# Altium schematic symbol library kmilo17pet-TI_StepDown.SchLib: 565 symbols (part 26 of 33)
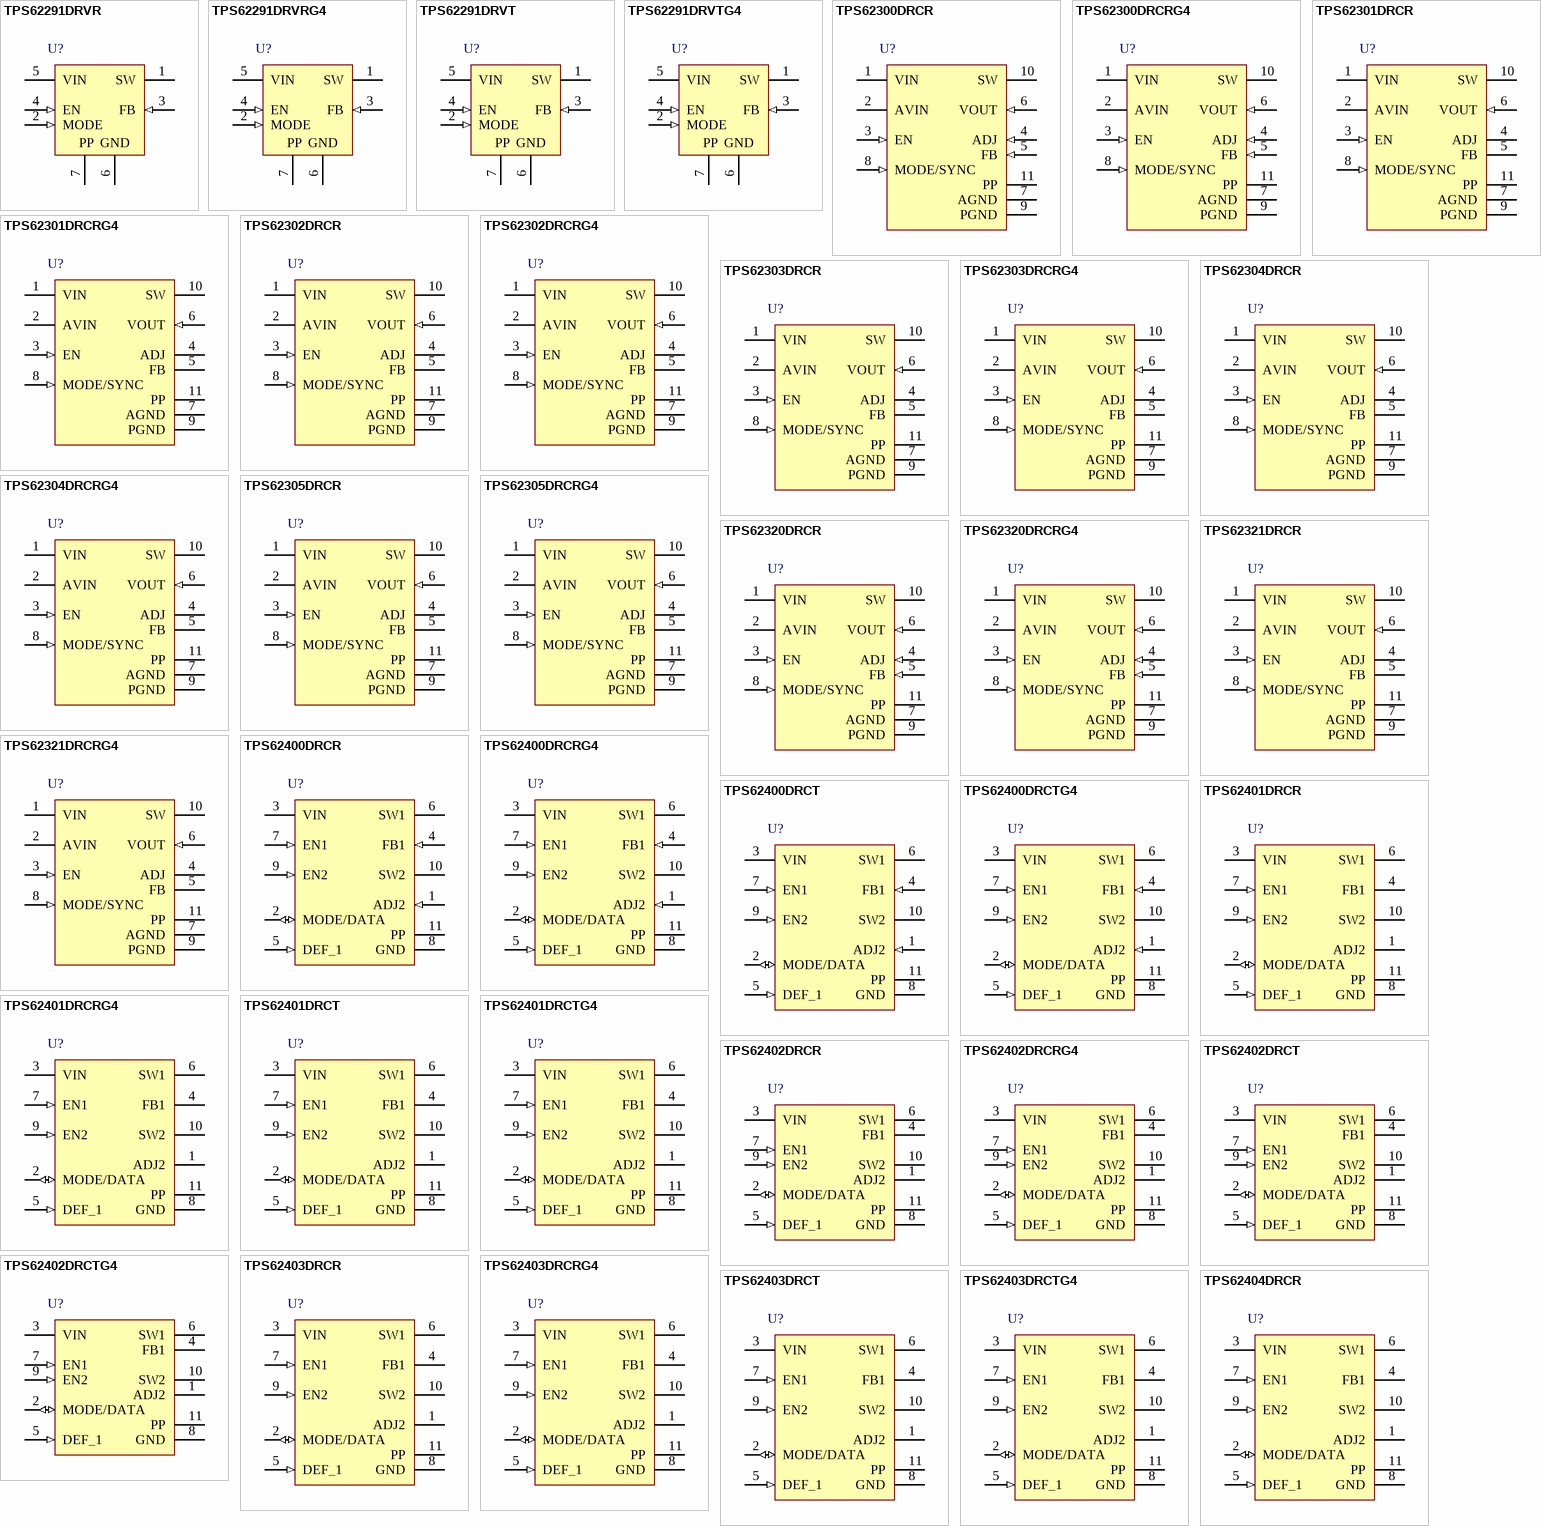
[diagram p44: symbols TPS62291DRVR to TPS62404DRCR]

## TPS62400DRCRG4
designator U?
Buck Adjustable Regulator with 2.5 to 6 V Input and 0.6 to 6 V Output, -40 to 85 degC, 10-Pin SON (DRC), Green (RoHS & no Sb/Br); Manufacturer: Texas Instruments; PartNumber: TPS62400DRCRG4; Duty Cycle(Max)(%): 100; Dynamic Voltage Scaling: TRUE; Iout(Max)(A): 0.4; Iout2(Max)(A): 0.6; Iq(Typ)(mA): 0.032; Rating: Catalog; Regulated Outputs(#): 2; SubFamily: Step-Down Regulator; Switch Current Limit(Typ)(A): 1; Vin(Max)(V): 6; Vin(Min)(V): 2.5; DatasheetVersion: SLVS681E; PackageVersion: revL, Sep-2011; PackageReference: DRC10-2400X1650TP; PackageDescription: 10-Pin Plastic Small Outline No-Lead, 3 x 3 x 1 mm Body, 0.5 mm Pitch, Exposed Pad; Supplier 1: Digi-Key; Supplier Part Number 1: TPS62400DRCRG4-ND; Eco-Plan: Green (RoHS & no Sb/Br); Synchronous Rectification: TRUE; Topology: Buck; Vout(Max)(V): 6; Vout(Min)(V): 0.6; Vout2(Max)(V): 6; Vout2(Min)(V): 0.6; Mounting Technology: Surface Mount; ComponentLink1Description: Datasheet; ComponentLink1URL: http://www.ti.com/general/docs/lit/getliterature.tsp?genericPartNumber=TPS62400&fileType=pdf; ComponentLink2Description: Package Specification; ComponentLink2URL: http://www.ti.com/litv/pdf/mpds117k; ComponentLink3Description: URL Link1; ComponentLink3URL: Samples URL:http://www.ti.com/product/tps62400#samples
footprint DRC10-2400X1650TP (SON, 10-Leads, Body 3x3mm, Pitch 0.5mm, Thermal Pad 2.4x1.65mm, TI Recommended)
pins: 1 ADJ2 (in) "Input to adjust output voltage of converter 2. In adjustable version (TPS62400) connect a external resistor divider between VOUT2, this pin and GND to set output voltage between 0.6V and VIN. At fixed output voltage version (See Datasheet)", 2 MODE/DATA (io) "This Pin has 2 functions: 1. Operation Mode selection: With low level, Power Save Mode is enabled where the device operates in PFM mode at light loads and enters automatically PWM mode at heavy loads. Pulling this PIN to (See Datasheet)", 3 VIN (power) "Supply voltage, connect to VBAT, 2.5V to 6V", 4 FB1 (in) "Direct feedback voltage sense input of converter 1, connect directly to Vout 1. An internal feed forward capacitor is connected between this pin and the error amplifier. In case of fixed output voltage versions or when the (See Datasheet)", 5 DEF_1 (in) "This pin defines the output voltage of converter 1. The pin acts either as analog input for output voltage setting via external resistors (TPS62400). For the TPS62400, an external resistor network needs to be connected to (See Datasheet)", 6 SW1 (power) "Switch Pin of Converter1. Connect to Inductor", 7 EN1 (in) "Enable Input for Converter1, active high", 8 GND (power) "GND for both converters; connect this pin to the PowerPAD", 9 EN2 (in) "Enable Input for Converter 2, active high", 10 SW2 (power) "Switch Pin of Converter 2. Connect to Inductor.", 11 PP (power) "Connect to GND"

## TPS62400DRCT
designator U?
Buck Adjustable Regulator with 2.5 to 6 V Input and 0.6 to 6 V Output, -40 to 85 degC, 10-Pin SON (DRC), Green (RoHS & no Sb/Br); Manufacturer: Texas Instruments; PartNumber: TPS62400DRCT; Duty Cycle(Max)(%): 100; Dynamic Voltage Scaling: TRUE; Iout(Max)(A): 0.4; Iout2(Max)(A): 0.6; Iq(Typ)(mA): 0.032; Rating: Catalog; Regulated Outputs(#): 2; SubFamily: Step-Down Regulator; Switch Current Limit(Typ)(A): 1; Vin(Max)(V): 6; Vin(Min)(V): 2.5; DatasheetVersion: SLVS681E; PackageVersion: revL, Sep-2011; PackageReference: DRC10-2400X1650TP; PackageDescription: 10-Pin Plastic Small Outline No-Lead, 3 x 3 x 1 mm Body, 0.5 mm Pitch, Exposed Pad; Supplier 1: Digi-Key; Supplier Part Number 1: 296-20690-2-ND; Eco-Plan: Green (RoHS & no Sb/Br); Synchronous Rectification: TRUE; Topology: Buck; Vout(Max)(V): 6; Vout(Min)(V): 0.6; Vout2(Max)(V): 6; Vout2(Min)(V): 0.6; Mounting Technology: Surface Mount; ComponentLink1Description: Datasheet; ComponentLink1URL: http://www.ti.com/general/docs/lit/getliterature.tsp?genericPartNumber=TPS62400&fileType=pdf; ComponentLink2Description: Package Specification; ComponentLink2URL: http://www.ti.com/litv/pdf/mpds117k; ComponentLink3Description: URL Link1; ComponentLink3URL: Samples URL:http://www.ti.com/product/tps62400#samples
footprint DRC10-2400X1650TP (SON, 10-Leads, Body 3x3mm, Pitch 0.5mm, Thermal Pad 2.4x1.65mm, TI Recommended)
pins: 1 ADJ2 (in) "Input to adjust output voltage of converter 2. In adjustable version (TPS62400) connect a external resistor divider between VOUT2, this pin and GND to set output voltage between 0.6V and VIN. At fixed output voltage version (See Datasheet)", 2 MODE/DATA (io) "This Pin has 2 functions: 1. Operation Mode selection: With low level, Power Save Mode is enabled where the device operates in PFM mode at light loads and enters automatically PWM mode at heavy loads. Pulling this PIN to (See Datasheet)", 3 VIN (power) "Supply voltage, connect to VBAT, 2.5V to 6V", 4 FB1 (in) "Direct feedback voltage sense input of converter 1, connect directly to Vout 1. An internal feed forward capacitor is connected between this pin and the error amplifier. In case of fixed output voltage versions or when the (See Datasheet)", 5 DEF_1 (in) "This pin defines the output voltage of converter 1. The pin acts either as analog input for output voltage setting via external resistors (TPS62400). For the TPS62400, an external resistor network needs to be connected to (See Datasheet)", 6 SW1 (power) "Switch Pin of Converter1. Connect to Inductor", 7 EN1 (in) "Enable Input for Converter1, active high", 8 GND (power) "GND for both converters; connect this pin to the PowerPAD", 9 EN2 (in) "Enable Input for Converter 2, active high", 10 SW2 (power) "Switch Pin of Converter 2. Connect to Inductor.", 11 PP (power) "Connect to GND"

## TPS62400DRCTG4
designator U?
Buck Adjustable Regulator with 2.5 to 6 V Input and 0.6 to 6 V Output, -40 to 85 degC, 10-Pin SON (DRC), Green (RoHS & no Sb/Br); Manufacturer: Texas Instruments; PartNumber: TPS62400DRCTG4; Duty Cycle(Max)(%): 100; Dynamic Voltage Scaling: true; Iout(Max)(A): 0.4; Iout2(Max)(A): 0.6; Iq(Typ)(mA): 0.032; Rating: Catalog; Regulated Outputs(#): 2; SubFamily: Step-Down Regulator; Switch Current Limit(Typ)(A): 1; Vin(Max)(V): 6; Vin(Min)(V): 2.5; DatasheetVersion: SLVS681E; PackageVersion: revL, Sep-2011; PackageReference: DRC10-2400X1650TP; PackageDescription: 10-Pin Plastic Small Outline No-Lead, 3 x 3 x 1 mm Body, 0.5 mm Pitch, Exposed Pad; Supplier 1: Digi-Key; Supplier Part Number 1: TPS62400DRCTG4-ND; Eco-Plan: Green (RoHS & no Sb/Br); Synchronous Rectification: TRUE; Topology: Buck; Vout(Max)(V): 6; Vout(Min)(V): 0.6; Vout2(Max)(V): 6; Vout2(Min)(V): 0.6; Mounting Technology: Surface Mount; ComponentLink1Description: Datasheet; ComponentLink1URL: http://www.ti.com/general/docs/lit/getliterature.tsp?genericPartNumber=TPS62400&fileType=pdf; ComponentLink2Description: Package Specification; ComponentLink2URL: http://www.ti.com/litv/pdf/mpds117k; ComponentLink3Description: URL Link1; ComponentLink3URL: Samples URL:http://www.ti.com/product/tps54611#samples
footprint DRC10-2400X1650TP (SON, 10-Leads, Body 3x3mm, Pitch 0.5mm, Thermal Pad 2.4x1.65mm, TI Recommended)
pins: 1 ADJ2 (in) "Input to adjust output voltage of converter 2. In adjustable version (TPS62400) connect a external resistor divider between VOUT2, this pin and GND to set output voltage between 0.6V and VIN. At fixed output voltage version (See Datasheet)", 2 MODE/DATA (io) "This Pin has 2 functions: 1. Operation Mode selection: With low level, Power Save Mode is enabled where the device operates in PFM mode at light loads and enters automatically PWM mode at heavy loads. Pulling this PIN to (See Datasheet)", 3 VIN (power) "Supply voltage, connect to VBAT, 2.5V to 6V", 4 FB1 (in) "Direct feedback voltage sense input of converter 1, connect directly to Vout 1. An internal feed forward capacitor is connected between this pin and the error amplifier. In case of fixed output voltage versions or when the (See Datasheet)", 5 DEF_1 (in) "This pin defines the output voltage of converter 1. The pin acts either as analog input for output voltage setting via external resistors (TPS62400). For the TPS62400, an external resistor network needs to be connected to (See Datasheet)", 6 SW1 (power) "Switch Pin of Converter1. Connect to Inductor", 7 EN1 (in) "Enable Input for Converter1, active high", 8 GND (power) "GND for both converters; connect this pin to the PowerPAD", 9 EN2 (in) "Enable Input for Converter 2, active high", 10 SW2 (power) "Switch Pin of Converter 2. Connect to Inductor.", 11 PP (power) "Connect to GND"

## TPS62401DRCR
designator U?
Buck Step Down Regulator with 2.5 to 6 V Input and 1.1 to 1.575 V Output, -40 to 85 degC, 10-Pin SON (DRC), Green (RoHS & no Sb/Br); Manufacturer: Texas Instruments; PartNumber: TPS62401DRCR; Duty Cycle(Max)(%): 100; Dynamic Voltage Scaling: TRUE; Iout(Max)(A): 0.4; Iout2(Max)(A): 0.6; Iq(Typ)(mA): 0.032; Rating: Catalog; Regulated Outputs(#): 2; SubFamily: Step-Down Regulator; Switch Current Limit(Typ)(A): 1; Vin(Max)(V): 6; Vin(Min)(V): 2.5; Vout(Max)(V): 1.575; Vout(Min)(V): 1.1; Vout2(Max)(V): 2.8; DatasheetVersion: SLVS681E; PackageVersion: revL, Sep-2011; PackageReference: DRC10-2400X1650TP; PackageDescription: 10-Pin Plastic Small Outline No-Lead, 3 x 3 x 1 mm Body, 0.5 mm Pitch, Exposed Pad; Supplier 1: Digi-Key; Supplier Part Number 1: TPS62401DRCR-ND; Eco-Plan: Green (RoHS & no Sb/Br); Synchronous Rectification: TRUE; Topology: Buck; Vout2(Min)(V): 2.8; Mounting Technology: Surface Mount; ComponentLink1Description: Datasheet; ComponentLink1URL: http://www.ti.com/general/docs/lit/getliterature.tsp?genericPartNumber=TPS62401&fileType=pdf; ComponentLink2Description: Package Specification; ComponentLink2URL: http://www.ti.com/litv/pdf/mpds117k; ComponentLink3Description: URL Link1; ComponentLink3URL: Samples URL:http://www.ti.com/product/tps62401#samples
footprint DRC10-2400X1650TP (SON, 10-Leads, Body 3x3mm, Pitch 0.5mm, Thermal Pad 2.4x1.65mm, TI Recommended)
pins: 1 ADJ2 "Input to adjust output voltage of converter 2. In adjustable version (TPS62400) connect a external resistor divider between VOUT2, this pin and GND to set output voltage between 0.6V and VIN. At fixed output voltage version (See Datasheet)", 2 MODE/DATA (io) "This Pin has 2 functions: 1. Operation Mode selection: With low level, Power Save Mode is enabled where the device operates in PFM mode at light loads and enters automatically PWM mode at heavy loads. Pulling this PIN to (See Datasheet)", 3 VIN (power) "Supply voltage, connect to VBAT, 2.5V to 6V", 4 FB1 "Direct feedback voltage sense input of converter 1, connect directly to Vout 1. An internal feed forward capacitor is connected between this pin and the error amplifier. In case of fixed output voltage versions or when the (See Datasheet)", 5 DEF_1 (in) "This pin defines the output voltage of converter 1. The pin acts either as analog input for output voltage setting via external resistors (TPS62400), or digital input to select between two fixed default output voltages (See Datasheet)", 6 SW1 (power) "Switch Pin of Converter1. Connect to Inductor", 7 EN1 (in) "Enable Input for Converter1, active high", 8 GND (power) "GND for both converters; connect this pin to the PowerPAD", 9 EN2 (in) "Enable Input for Converter 2, active high", 10 SW2 (power) "Switch Pin of Converter 2. Connect to Inductor.", 11 PP (power) "Connect to GND"

## TPS62401DRCRG4
designator U?
Buck Step Down Regulator with 2.5 to 6 V Input and 1.1 to 1.575 V Output, -40 to 85 degC, 10-Pin SON (DRC), Green (RoHS & no Sb/Br); Manufacturer: Texas Instruments; PartNumber: TPS62401DRCRG4; Duty Cycle(Max)(%): 100; Dynamic Voltage Scaling: TRUE; Iout(Max)(A): 0.4; Iout2(Max)(A): 0.6; Iq(Typ)(mA): 0.032; Rating: Catalog; Regulated Outputs(#): 2; SubFamily: Step-Down Regulator; Switch Current Limit(Typ)(A): 1; Vin(Max)(V): 6; Vin(Min)(V): 2.5; Vout(Max)(V): 1.575; Vout(Min)(V): 1.1; Vout2(Max)(V): 2.8; DatasheetVersion: SLVS681E; PackageVersion: revL, Sep-2011; PackageReference: DRC10-2400X1650TP; PackageDescription: 10-Pin Plastic Small Outline No-Lead, 3 x 3 x 1 mm Body, 0.5 mm Pitch, Exposed Pad; Supplier 1: Digi-Key; Supplier Part Number 1: TPS62401DRCRG4-ND; Eco-Plan: Green (RoHS & no Sb/Br); Synchronous Rectification: TRUE; Topology: Buck; Vout2(Min)(V): 2.8; Mounting Technology: Surface Mount; ComponentLink1Description: Datasheet; ComponentLink1URL: http://www.ti.com/general/docs/lit/getliterature.tsp?genericPartNumber=TPS62401&fileType=pdf; ComponentLink2Description: Package Specification; ComponentLink2URL: http://www.ti.com/litv/pdf/mpds117k; ComponentLink3Description: URL Link1; ComponentLink3URL: Samples URL:http://www.ti.com/product/tps62401#samples
footprint DRC10-2400X1650TP (SON, 10-Leads, Body 3x3mm, Pitch 0.5mm, Thermal Pad 2.4x1.65mm, TI Recommended)
pins: 1 ADJ2 "Input to adjust output voltage of converter 2. In adjustable version (TPS62400) connect a external resistor divider between VOUT2, this pin and GND to set output voltage between 0.6V and VIN. At fixed output voltage version (See Datasheet)", 2 MODE/DATA (io) "This Pin has 2 functions: 1. Operation Mode selection: With low level, Power Save Mode is enabled where the device operates in PFM mode at light loads and enters automatically PWM mode at heavy loads. Pulling this PIN to (See Datasheet)", 3 VIN (power) "Supply voltage, connect to VBAT, 2.5V to 6V", 4 FB1 "Direct feedback voltage sense input of converter 1, connect directly to Vout 1. An internal feed forward capacitor is connected between this pin and the error amplifier. In case of fixed output voltage versions or when the (See Datasheet)", 5 DEF_1 (in) "This pin defines the output voltage of converter 1. The pin acts either as analog input for output voltage setting via external resistors (TPS62400), or digital input to select between two fixed default output voltages (See Datasheet)", 6 SW1 (power) "Switch Pin of Converter1. Connect to Inductor", 7 EN1 (in) "Enable Input for Converter1, active high", 8 GND (power) "GND for both converters; connect this pin to the PowerPAD", 9 EN2 (in) "Enable Input for Converter 2, active high", 10 SW2 (power) "Switch Pin of Converter 2. Connect to Inductor.", 11 PP (power) "Connect to GND"

## TPS62401DRCT
designator U?
Buck Step Down Regulator with 2.5 to 6 V Input and 1.1 to 1.575 V Output, -40 to 85 degC, 10-Pin SON (DRC), Green (RoHS & no Sb/Br); Manufacturer: Texas Instruments; PartNumber: TPS62401DRCT; Duty Cycle(Max)(%): 100; Dynamic Voltage Scaling: TRUE; Iout(Max)(A): 0.4; Iout2(Max)(A): 0.6; Iq(Typ)(mA): 0.032; Rating: Catalog; Regulated Outputs(#): 2; SubFamily: Step-Down Regulator; Switch Current Limit(Typ)(A): 1; Vin(Max)(V): 6; Vin(Min)(V): 2.5; Vout(Max)(V): 1.575; Vout(Min)(V): 1.1; Vout2(Max)(V): 2.8; DatasheetVersion: SLVS681E; PackageVersion: revL, Sep-2011; PackageReference: DRC10-2400X1650TP; PackageDescription: 10-Pin Plastic Small Outline No-Lead, 3 x 3 x 1 mm Body, 0.5 mm Pitch, Exposed Pad; Supplier 1: Digi-Key; Supplier Part Number 1: 296-20691-2-ND; Eco-Plan: Green (RoHS & no Sb/Br); Synchronous Rectification: TRUE; Topology: Buck; Vout2(Min)(V): 2.8; Mounting Technology: Surface Mount; ComponentLink1Description: Datasheet; ComponentLink1URL: http://www.ti.com/general/docs/lit/getliterature.tsp?genericPartNumber=TPS62401&fileType=pdf; ComponentLink2Description: Package Specification; ComponentLink2URL: http://www.ti.com/litv/pdf/mpds117k; ComponentLink3Description: URL Link1; ComponentLink3URL: Samples URL:http://www.ti.com/product/tps62401#samples
footprint DRC10-2400X1650TP (SON, 10-Leads, Body 3x3mm, Pitch 0.5mm, Thermal Pad 2.4x1.65mm, TI Recommended)
pins: 1 ADJ2 "Input to adjust output voltage of converter 2. In adjustable version (TPS62400) connect a external resistor divider between VOUT2, this pin and GND to set output voltage between 0.6V and VIN. At fixed output voltage version (See Datasheet)", 2 MODE/DATA (io) "This Pin has 2 functions: 1. Operation Mode selection: With low level, Power Save Mode is enabled where the device operates in PFM mode at light loads and enters automatically PWM mode at heavy loads. Pulling this PIN to (See Datasheet)", 3 VIN (power) "Supply voltage, connect to VBAT, 2.5V to 6V", 4 FB1 "Direct feedback voltage sense input of converter 1, connect directly to Vout 1. An internal feed forward capacitor is connected between this pin and the error amplifier. In case of fixed output voltage versions or when the (See Datasheet)", 5 DEF_1 (in) "This pin defines the output voltage of converter 1. The pin acts either as analog input for output voltage setting via external resistors (TPS62400), or digital input to select between two fixed default output voltages (See Datasheet)", 6 SW1 (power) "Switch Pin of Converter1. Connect to Inductor", 7 EN1 (in) "Enable Input for Converter1, active high", 8 GND (power) "GND for both converters; connect this pin to the PowerPAD", 9 EN2 (in) "Enable Input for Converter 2, active high", 10 SW2 (power) "Switch Pin of Converter 2. Connect to Inductor.", 11 PP (power) "Connect to GND"

## TPS62401DRCTG4
designator U?
Buck Step Down Regulator with 2.5 to 6 V Input and 1.1 to 1.575 V Output, -40 to 85 degC, 10-Pin SON (DRC), Green (RoHS & no Sb/Br); Manufacturer: Texas Instruments; PartNumber: TPS62401DRCTG4; Duty Cycle(Max)(%): 100; Dynamic Voltage Scaling: TRUE; Iout(Max)(A): 0.4; Iout2(Max)(A): 0.6; Iq(Typ)(mA): 0.032; Rating: Catalog; Regulated Outputs(#): 2; SubFamily: Step-Down Regulator; Switch Current Limit(Typ)(A): 1; Vin(Max)(V): 6; Vin(Min)(V): 2.5; Vout(Max)(V): 1.575; Vout(Min)(V): 1.1; Vout2(Max)(V): 2.8; DatasheetVersion: SLVS681E; PackageVersion: revL, Sep-2011; PackageReference: DRC10-2400X1650TP; PackageDescription: 10-Pin Plastic Small Outline No-Lead, 3 x 3 x 1 mm Body, 0.5 mm Pitch, Exposed Pad; Supplier 1: Digi-Key; Supplier Part Number 1: TPS62401DRCTG4-ND; Eco-Plan: Green (RoHS & no Sb/Br); Synchronous Rectification: TRUE; Topology: Buck; Vout2(Min)(V): 2.8; Mounting Technology: Surface Mount; ComponentLink1Description: Datasheet; ComponentLink1URL: http://www.ti.com/general/docs/lit/getliterature.tsp?genericPartNumber=TPS62401&fileType=pdf; ComponentLink2Description: Package Specification; ComponentLink2URL: http://www.ti.com/litv/pdf/mpds117k; ComponentLink3Description: URL Link1; ComponentLink3URL: Samples URL:http://www.ti.com/product/tps54611#samples
footprint DRC10-2400X1650TP (SON, 10-Leads, Body 3x3mm, Pitch 0.5mm, Thermal Pad 2.4x1.65mm, TI Recommended)
pins: 1 ADJ2 "Input to adjust output voltage of converter 2. In adjustable version (TPS62400) connect a external resistor divider between VOUT2, this pin and GND to set output voltage between 0.6V and VIN. At fixed output voltage version (See Datasheet)", 2 MODE/DATA (io) "This Pin has 2 functions: 1. Operation Mode selection: With low level, Power Save Mode is enabled where the device operates in PFM mode at light loads and enters automatically PWM mode at heavy loads. Pulling this PIN to (See Datasheet)", 3 VIN (power) "Supply voltage, connect to VBAT, 2.5V to 6V", 4 FB1 "Direct feedback voltage sense input of converter 1, connect directly to Vout 1. An internal feed forward capacitor is connected between this pin and the error amplifier. In case of fixed output voltage versions or when the (See Datasheet)", 5 DEF_1 (in) "This pin defines the output voltage of converter 1. The pin acts either as analog input for output voltage setting via external resistors (TPS62400), or digital input to select between two fixed default output voltages (See Datasheet)", 6 SW1 (power) "Switch Pin of Converter1. Connect to Inductor", 7 EN1 (in) "Enable Input for Converter1, active high", 8 GND (power) "GND for both converters; connect this pin to the PowerPAD", 9 EN2 (in) "Enable Input for Converter 2, active high", 10 SW2 (power) "Switch Pin of Converter 2. Connect to Inductor.", 11 PP (power) "Connect to GND"

## TPS62402DRCR
designator U?
Buck Step Down Regulator with 2.5 to 6 V Input and 1.2 to 1.8 V Output, -40 to 85 degC, 10-Pin SON (DRC), Green (RoHS & no Sb/Br); Manufacturer: Texas Instruments; PartNumber: TPS62402DRCR; Duty Cycle(Max)(%): 100; Dynamic Voltage Scaling: TRUE; Iout(Max)(A): 0.4; Iout2(Max)(A): 0.6; Iq(Typ)(mA): 0.032; Rating: Catalog; Regulated Outputs(#): 2; SubFamily: Step-Down Regulator; Switch Current Limit(Typ)(A): 1; Vin(Max)(V): 6; Vin(Min)(V): 2.5; Vout(Max)(V): 1.8; Vout(Min)(V): 1.2; Vout2(Max)(V): 3.3; DatasheetVersion: SLVS681E; PackageVersion: revL, Sep-2011; PackageReference: DRC10-2400X1650TP; PackageDescription: 10-Pin Plastic Small Outline No-Lead, 3 x 3 x 1 mm Body, 0.5 mm Pitch, Exposed Pad; Supplier 1: Digi-Key; Supplier Part Number 1: TPS62402DRCR-ND; Eco-Plan: Green (RoHS & no Sb/Br); Synchronous Rectification: TRUE; Topology: Buck; Vout2(Min)(V): 3.3; Mounting Technology: Surface Mount; ComponentLink1Description: Datasheet; ComponentLink1URL: http://www.ti.com/general/docs/lit/getliterature.tsp?genericPartNumber=TPS62402&fileType=pdf; ComponentLink2Description: Package Specification; ComponentLink2URL: http://www.ti.com/litv/pdf/mpds117k; ComponentLink3Description: URL Link1; ComponentLink3URL: Samples URL:http://www.ti.com/product/tps62402#samples
footprint DRC10-2400X1650TP (SON, 10-Leads, Body 3x3mm, Pitch 0.5mm, Thermal Pad 2.4x1.65mm, TI Recommended)
pins: 1 ADJ2 "Input to adjust output voltage of converter 2. In adjustable version (TPS62400) connect a external resistor divider between VOUT2, this pin and GND to set output voltage between 0.6V and VIN. At fixed output voltage version (See Datasheet)", 2 MODE/DATA (io) "This Pin has 2 functions: 1. Operation Mode selection: With low level, Power Save Mode is enabled where the device operates in PFM mode at light loads and enters automatically PWM mode at heavy loads. Pulling this PIN to (See Datasheet)", 3 VIN (power) "Supply voltage, connect to VBAT, 2.5V to 6V", 4 FB1 "Direct feedback voltage sense input of converter 1, connect directly to Vout 1. An internal feed forward capacitor is connected between this pin and the error amplifier. In case of fixed output voltage versions or when the (See Datasheet)", 5 DEF_1 (in) "This pin defines the output voltage of converter 1. The pin acts either as analog input for output voltage setting via external resistors (TPS62400), or digital input to select between two fixed default output voltages (See Datasheet)", 6 SW1 (power) "Switch Pin of Converter1. Connect to Inductor", 7 EN1 (in) "Enable Input for Converter1, active high", 8 GND (power) "GND for both converters; connect this pin to the PowerPAD", 9 EN2 (in) "Enable Input for Converter 2, active high", 10 SW2 (power) "Switch Pin of Converter 2. Connect to Inductor.", 11 PP (power) "Connect to GND"

## TPS62402DRCRG4
designator U?
Buck Step Down Regulator with 2.5 to 6 V Input and 1.2 to 1.8 V Output, -40 to 85 degC, 10-Pin SON (DRC), Green (RoHS & no Sb/Br); Manufacturer: Texas Instruments; PartNumber: TPS62402DRCRG4; Duty Cycle(Max)(%): 100; Dynamic Voltage Scaling: TRUE; Iout(Max)(A): 0.4; Iout2(Max)(A): 0.6; Iq(Typ)(mA): 0.032; Rating: Catalog; Regulated Outputs(#): 2; SubFamily: Step-Down Regulator; Switch Current Limit(Typ)(A): 1; Vin(Max)(V): 6; Vin(Min)(V): 2.5; Vout(Max)(V): 1.8; Vout(Min)(V): 1.2; Vout2(Max)(V): 3.3; DatasheetVersion: SLVS681E; PackageVersion: revL, Sep-2011; PackageReference: DRC10-2400X1650TP; PackageDescription: 10-Pin Plastic Small Outline No-Lead, 3 x 3 x 1 mm Body, 0.5 mm Pitch, Exposed Pad; Supplier 1: Digi-Key; Supplier Part Number 1: TPS62402DRCRG4-ND; Eco-Plan: Green (RoHS & no Sb/Br); Synchronous Rectification: TRUE; Topology: Buck; Vout2(Min)(V): 3.3; Mounting Technology: Surface Mount; ComponentLink1Description: Datasheet; ComponentLink1URL: http://www.ti.com/general/docs/lit/getliterature.tsp?genericPartNumber=TPS62402&fileType=pdf; ComponentLink2Description: Package Specification; ComponentLink2URL: http://www.ti.com/litv/pdf/mpds117k; ComponentLink3Description: URL Link1; ComponentLink3URL: Samples URL:http://www.ti.com/product/tps62402#samples
footprint DRC10-2400X1650TP (SON, 10-Leads, Body 3x3mm, Pitch 0.5mm, Thermal Pad 2.4x1.65mm, TI Recommended)
pins: 1 ADJ2 "Input to adjust output voltage of converter 2. In adjustable version (TPS62400) connect a external resistor divider between VOUT2, this pin and GND to set output voltage between 0.6V and VIN. At fixed output voltage version (See Datasheet)", 2 MODE/DATA (io) "This Pin has 2 functions: 1. Operation Mode selection: With low level, Power Save Mode is enabled where the device operates in PFM mode at light loads and enters automatically PWM mode at heavy loads. Pulling this PIN to (See Datasheet)", 3 VIN (power) "Supply voltage, connect to VBAT, 2.5V to 6V", 4 FB1 "Direct feedback voltage sense input of converter 1, connect directly to Vout 1. An internal feed forward capacitor is connected between this pin and the error amplifier. In case of fixed output voltage versions or when the (See Datasheet)", 5 DEF_1 (in) "This pin defines the output voltage of converter 1. The pin acts either as analog input for output voltage setting via external resistors (TPS62400), or digital input to select between two fixed default output voltages (See Datasheet)", 6 SW1 (power) "Switch Pin of Converter1. Connect to Inductor", 7 EN1 (in) "Enable Input for Converter1, active high", 8 GND (power) "GND for both converters; connect this pin to the PowerPAD", 9 EN2 (in) "Enable Input for Converter 2, active high", 10 SW2 (power) "Switch Pin of Converter 2. Connect to Inductor.", 11 PP (power) "Connect to GND"

## TPS62402DRCT
designator U?
Buck Step Down Regulator with 2.5 to 6 V Input and 1.2 to 1.8 V Output, -40 to 85 degC, 10-Pin SON (DRC), Green (RoHS & no Sb/Br); Manufacturer: Texas Instruments; PartNumber: TPS62402DRCT; Duty Cycle(Max)(%): 100; Dynamic Voltage Scaling: TRUE; Iout(Max)(A): 0.4; Iout2(Max)(A): 0.6; Iq(Typ)(mA): 0.032; Rating: Catalog; Regulated Outputs(#): 2; SubFamily: Step-Down Regulator; Switch Current Limit(Typ)(A): 1; Vin(Max)(V): 6; Vin(Min)(V): 2.5; Vout(Max)(V): 1.8; Vout(Min)(V): 1.2; Vout2(Max)(V): 3.3; DatasheetVersion: SLVS681E; PackageVersion: revL, Sep-2011; PackageReference: DRC10-2400X1650TP; PackageDescription: 10-Pin Plastic Small Outline No-Lead, 3 x 3 x 1 mm Body, 0.5 mm Pitch, Exposed Pad; Supplier 1: Digi-Key; Supplier Part Number 1: 296-21646-2-ND; Supplier 7: Mouser; Supplier Part Number 7: 595-TPS62402DRCT; Eco-Plan: Green (RoHS & no Sb/Br); Synchronous Rectification: TRUE; Topology: Buck; Vout2(Min)(V): 3.3; Mounting Technology: Surface Mount; ComponentLink1Description: Datasheet; ComponentLink1URL: http://www.ti.com/general/docs/lit/getliterature.tsp?genericPartNumber=TPS62402&fileType=pdf; ComponentLink2Description: Package Specification; ComponentLink2URL: http://www.ti.com/litv/pdf/mpds117k; ComponentLink3Description: URL Link1; ComponentLink3URL: Samples URL:http://www.ti.com/product/tps62402#samples
footprint DRC10-2400X1650TP (SON, 10-Leads, Body 3x3mm, Pitch 0.5mm, Thermal Pad 2.4x1.65mm, TI Recommended)
pins: 1 ADJ2 "Input to adjust output voltage of converter 2. In adjustable version (TPS62400) connect a external resistor divider between VOUT2, this pin and GND to set output voltage between 0.6V and VIN. At fixed output voltage version (See Datasheet)", 2 MODE/DATA (io) "This Pin has 2 functions: 1. Operation Mode selection: With low level, Power Save Mode is enabled where the device operates in PFM mode at light loads and enters automatically PWM mode at heavy loads. Pulling this PIN to (See Datasheet)", 3 VIN (power) "Supply voltage, connect to VBAT, 2.5V to 6V", 4 FB1 "Direct feedback voltage sense input of converter 1, connect directly to Vout 1. An internal feed forward capacitor is connected between this pin and the error amplifier. In case of fixed output voltage versions or when the (See Datasheet)", 5 DEF_1 (in) "This pin defines the output voltage of converter 1. The pin acts either as analog input for output voltage setting via external resistors (TPS62400), or digital input to select between two fixed default output voltages (See Datasheet)", 6 SW1 (power) "Switch Pin of Converter1. Connect to Inductor", 7 EN1 (in) "Enable Input for Converter1, active high", 8 GND (power) "GND for both converters; connect this pin to the PowerPAD", 9 EN2 (in) "Enable Input for Converter 2, active high", 10 SW2 (power) "Switch Pin of Converter 2. Connect to Inductor.", 11 PP (power) "Connect to GND"

## TPS62402DRCTG4
designator U?
Buck Step Down Regulator with 2.5 to 6 V Input and 1.2 to 1.8 V Output, -40 to 85 degC, 10-Pin SON (DRC), Green (RoHS & no Sb/Br); Manufacturer: Texas Instruments; PartNumber: TPS62402DRCTG4; Duty Cycle(Max)(%): 100; Dynamic Voltage Scaling: TRUE; Iout(Max)(A): 0.4; Iout2(Max)(A): 0.6; Iq(Typ)(mA): 0.032; Rating: Catalog; Regulated Outputs(#): 2; SubFamily: Step-Down Regulator; Switch Current Limit(Typ)(A): 1; Vin(Max)(V): 6; Vin(Min)(V): 2.5; Vout(Max)(V): 1.8; Vout(Min)(V): 1.2; Vout2(Max)(V): 3.3; DatasheetVersion: SLVS681E; PackageVersion: revL, Sep-2011; PackageReference: DRC10-2400X1650TP; PackageDescription: 10-Pin Plastic Small Outline No-Lead, 3 x 3 x 1 mm Body, 0.5 mm Pitch, Exposed Pad; Supplier 1: Digi-Key; Supplier Part Number 1: TPS62402DRCTG4-ND; Eco-Plan: Green (RoHS & no Sb/Br); Synchronous Rectification: TRUE; Topology: Buck; Vout2(Min)(V): 3.3; Mounting Technology: Surface Mount; ComponentLink1Description: Datasheet; ComponentLink1URL: http://www.ti.com/general/docs/lit/getliterature.tsp?genericPartNumber=TPS62402&fileType=pdf; ComponentLink2Description: Package Specification; ComponentLink2URL: http://www.ti.com/litv/pdf/mpds117k; ComponentLink3Description: URL Link1; ComponentLink3URL: Samples URL:http://www.ti.com/product/tps54611#samples
footprint DRC10-2400X1650TP (SON, 10-Leads, Body 3x3mm, Pitch 0.5mm, Thermal Pad 2.4x1.65mm, TI Recommended)
pins: 1 ADJ2 "Input to adjust output voltage of converter 2. In adjustable version (TPS62400) connect a external resistor divider between VOUT2, this pin and GND to set output voltage between 0.6V and VIN. At fixed output voltage version (See Datasheet)", 2 MODE/DATA (io) "This Pin has 2 functions: 1. Operation Mode selection: With low level, Power Save Mode is enabled where the device operates in PFM mode at light loads and enters automatically PWM mode at heavy loads. Pulling this PIN to (See Datasheet)", 3 VIN (power) "Supply voltage, connect to VBAT, 2.5V to 6V", 4 FB1 "Direct feedback voltage sense input of converter 1, connect directly to Vout 1. An internal feed forward capacitor is connected between this pin and the error amplifier. In case of fixed output voltage versions or when the (See Datasheet)", 5 DEF_1 (in) "This pin defines the output voltage of converter 1. The pin acts either as analog input for output voltage setting via external resistors (TPS62400), or digital input to select between two fixed default output voltages (See Datasheet)", 6 SW1 (power) "Switch Pin of Converter1. Connect to Inductor", 7 EN1 (in) "Enable Input for Converter1, active high", 8 GND (power) "GND for both converters; connect this pin to the PowerPAD", 9 EN2 (in) "Enable Input for Converter 2, active high", 10 SW2 (power) "Switch Pin of Converter 2. Connect to Inductor.", 11 PP (power) "Connect to GND"

## TPS62403DRCR
designator U?
Buck Step Down Regulator with 2.5 to 6 V Input and 1.1 to 1.575 V Output, -40 to 85 degC, 10-Pin SON (DRC), Green (RoHS & no Sb/Br); Manufacturer: Texas Instruments; PartNumber: TPS62403DRCR; Duty Cycle(Max)(%): 100; Dynamic Voltage Scaling: TRUE; Iout(Max)(A): 0.4; Iout2(Max)(A): 0.6; Iq(Typ)(mA): 0.032; Rating: Catalog; Regulated Outputs(#): 2; SubFamily: Step-Down Regulator; Switch Current Limit(Typ)(A): 1; Vin(Max)(V): 6; Vin(Min)(V): 2.5; Vout(Max)(V): 1.575; Vout(Min)(V): 1.1; Vout2(Max)(V): 2.8; DatasheetVersion: SLVS681E; PackageVersion: revL, Sep-2011; PackageReference: DRC10-2400X1650TP; PackageDescription: 10-Pin Plastic Small Outline No-Lead, 3 x 3 x 1 mm Body, 0.5 mm Pitch, Exposed Pad; Supplier 1: Digi-Key; Supplier Part Number 1: TPS62403DRCR-ND; Eco-Plan: Green (RoHS & no Sb/Br); Topology: Buck; Vout2(Min)(V): 2.8; Mounting Technology: Surface Mount; ComponentLink1Description: Datasheet; ComponentLink1URL: http://www.ti.com/general/docs/lit/getliterature.tsp?genericPartNumber=TPS62403&fileType=pdf; ComponentLink2Description: Package Specification; ComponentLink2URL: http://www.ti.com/litv/pdf/mpds117k; ComponentLink3Description: URL Link1; ComponentLink3URL: Samples URL:http://www.ti.com/product/tps62403#samples
footprint DRC10-2400X1650TP (SON, 10-Leads, Body 3x3mm, Pitch 0.5mm, Thermal Pad 2.4x1.65mm, TI Recommended)
pins: 1 ADJ2 "Input to adjust output voltage of converter 2. In adjustable version (TPS62400) connect a external resistor divider between VOUT2, this pin and GND to set output voltage between 0.6V and VIN. At fixed output voltage version (See Datasheet)", 2 MODE/DATA (io) "This Pin has 2 functions: 1. Operation Mode selection: With low level, Power Save Mode is enabled where the device operates in PFM mode at light loads and enters automatically PWM mode at heavy loads. Pulling this PIN to (See Datasheet)", 3 VIN (power) "Supply voltage, connect to VBAT, 2.5V to 6V", 4 FB1 "Direct feedback voltage sense input of converter 1, connect directly to Vout 1. An internal feed forward capacitor is connected between this pin and the error amplifier. In case of fixed output voltage versions or when the (See Datasheet)", 5 DEF_1 (in) "This pin defines the output voltage of converter 1. The pin acts either as analog input for output voltage setting via external resistors (TPS62400), or digital input to select between two fixed default output voltages (See Datasheet)", 6 SW1 (power) "Switch Pin of Converter1. Connect to Inductor", 7 EN1 (in) "Enable Input for Converter1, active high", 8 GND (power) "GND for both converters; connect this pin to the PowerPAD", 9 EN2 (in) "Enable Input for Converter 2, active high", 10 SW2 (power) "Switch Pin of Converter 2. Connect to Inductor.", 11 PP (power) "Connect to GND"

## TPS62403DRCRG4
designator U?
Buck Step Down Regulator with 2.5 to 6 V Input and 1.1 to 1.575 V Output, -40 to 85 degC, 10-Pin SON (DRC), Green (RoHS & no Sb/Br); Manufacturer: Texas Instruments; PartNumber: TPS62403DRCRG4; Duty Cycle(Max)(%): 100; Dynamic Voltage Scaling: TRUE; Iout(Max)(A): 0.4; Iout2(Max)(A): 0.6; Iq(Typ)(mA): 0.032; Rating: Catalog; Regulated Outputs(#): 2; SubFamily: Step-Down Regulator; Switch Current Limit(Typ)(A): 1; Vin(Max)(V): 6; Vin(Min)(V): 2.5; Vout(Max)(V): 1.575; Vout(Min)(V): 1.1; Vout2(Max)(V): 2.8; DatasheetVersion: SLVS681E; PackageVersion: revL, Sep-2011; PackageReference: DRC10-2400X1650TP; PackageDescription: 10-Pin Plastic Small Outline No-Lead, 3 x 3 x 1 mm Body, 0.5 mm Pitch, Exposed Pad; Supplier 1: Digi-Key; Supplier Part Number 1: TPS62403DRCRG4-ND; Eco-Plan: Green (RoHS & no Sb/Br); Topology: Buck; Vout2(Min)(V): 2.8; Mounting Technology: Surface Mount; ComponentLink1Description: Datasheet; ComponentLink1URL: http://www.ti.com/general/docs/lit/getliterature.tsp?genericPartNumber=TPS62403&fileType=pdf; ComponentLink2Description: Package Specification; ComponentLink2URL: http://www.ti.com/litv/pdf/mpds117k; ComponentLink3Description: URL Link1; ComponentLink3URL: Samples URL:http://www.ti.com/product/tps62403#samples
footprint DRC10-2400X1650TP (SON, 10-Leads, Body 3x3mm, Pitch 0.5mm, Thermal Pad 2.4x1.65mm, TI Recommended)
pins: 1 ADJ2 "Input to adjust output voltage of converter 2. In adjustable version (TPS62400) connect a external resistor divider between VOUT2, this pin and GND to set output voltage between 0.6V and VIN. At fixed output voltage version (See Datasheet)", 2 MODE/DATA (io) "This Pin has 2 functions: 1. Operation Mode selection: With low level, Power Save Mode is enabled where the device operates in PFM mode at light loads and enters automatically PWM mode at heavy loads. Pulling this PIN to (See Datasheet)", 3 VIN (power) "Supply voltage, connect to VBAT, 2.5V to 6V", 4 FB1 "Direct feedback voltage sense input of converter 1, connect directly to Vout 1. An internal feed forward capacitor is connected between this pin and the error amplifier. In case of fixed output voltage versions or when the (See Datasheet)", 5 DEF_1 (in) "This pin defines the output voltage of converter 1. The pin acts either as analog input for output voltage setting via external resistors (TPS62400), or digital input to select between two fixed default output voltages (See Datasheet)", 6 SW1 (power) "Switch Pin of Converter1. Connect to Inductor", 7 EN1 (in) "Enable Input for Converter1, active high", 8 GND (power) "GND for both converters; connect this pin to the PowerPAD", 9 EN2 (in) "Enable Input for Converter 2, active high", 10 SW2 (power) "Switch Pin of Converter 2. Connect to Inductor.", 11 PP (power) "Connect to GND"

## TPS62403DRCT
designator U?
Buck Step Down Regulator with 2.5 to 6 V Input and 1.1 to 1.575 V Output, -40 to 85 degC, 10-Pin SON (DRC), Green (RoHS & no Sb/Br); Manufacturer: Texas Instruments; PartNumber: TPS62403DRCT; Duty Cycle(Max)(%): 100; Dynamic Voltage Scaling: TRUE; Iout(Max)(A): 0.4; Iout2(Max)(A): 0.6; Iq(Typ)(mA): 0.032; Rating: Catalog; Regulated Outputs(#): 2; SubFamily: Step-Down Regulator; Switch Current Limit(Typ)(A): 1; Vin(Max)(V): 6; Vin(Min)(V): 2.5; Vout(Max)(V): 1.575; Vout(Min)(V): 1.1; Vout2(Max)(V): 2.8; DatasheetVersion: SLVS681E; PackageVersion: revL, Sep-2011; PackageReference: DRC10-2400X1650TP; PackageDescription: 10-Pin Plastic Small Outline No-Lead, 3 x 3 x 1 mm Body, 0.5 mm Pitch, Exposed Pad; Supplier 1: Digi-Key; Supplier Part Number 1: 296-21348-2-ND; Eco-Plan: Green (RoHS & no Sb/Br); Topology: Buck; Vout2(Min)(V): 2.8; Mounting Technology: Surface Mount; ComponentLink1Description: Datasheet; ComponentLink1URL: http://www.ti.com/general/docs/lit/getliterature.tsp?genericPartNumber=TPS62403&fileType=pdf; ComponentLink2Description: Package Specification; ComponentLink2URL: http://www.ti.com/litv/pdf/mpds117k; ComponentLink3Description: URL Link1; ComponentLink3URL: Samples URL:http://www.ti.com/product/tps62403#samples
footprint DRC10-2400X1650TP (SON, 10-Leads, Body 3x3mm, Pitch 0.5mm, Thermal Pad 2.4x1.65mm, TI Recommended)
pins: 1 ADJ2 "Input to adjust output voltage of converter 2. In adjustable version (TPS62400) connect a external resistor divider between VOUT2, this pin and GND to set output voltage between 0.6V and VIN. At fixed output voltage version (See Datasheet)", 2 MODE/DATA (io) "This Pin has 2 functions: 1. Operation Mode selection: With low level, Power Save Mode is enabled where the device operates in PFM mode at light loads and enters automatically PWM mode at heavy loads. Pulling this PIN to (See Datasheet)", 3 VIN (power) "Supply voltage, connect to VBAT, 2.5V to 6V", 4 FB1 "Direct feedback voltage sense input of converter 1, connect directly to Vout 1. An internal feed forward capacitor is connected between this pin and the error amplifier. In case of fixed output voltage versions or when the (See Datasheet)", 5 DEF_1 (in) "This pin defines the output voltage of converter 1. The pin acts either as analog input for output voltage setting via external resistors (TPS62400), or digital input to select between two fixed default output voltages (See Datasheet)", 6 SW1 (power) "Switch Pin of Converter1. Connect to Inductor", 7 EN1 (in) "Enable Input for Converter1, active high", 8 GND (power) "GND for both converters; connect this pin to the PowerPAD", 9 EN2 (in) "Enable Input for Converter 2, active high", 10 SW2 (power) "Switch Pin of Converter 2. Connect to Inductor.", 11 PP (power) "Connect to GND"

## TPS62403DRCTG4
designator U?
Buck Step Down Regulator with 2.5 to 6 V Input and 1.1 to 1.575 V Output, -40 to 85 degC, 10-Pin SON (DRC), Green (RoHS & no Sb/Br); Manufacturer: Texas Instruments; PartNumber: TPS62403DRCTG4; Duty Cycle(Max)(%): 100; Dynamic Voltage Scaling: TRUE; Iout(Max)(A): 0.4; Iout2(Max)(A): 0.6; Iq(Typ)(mA): 0.032; Rating: Catalog; Regulated Outputs(#): 2; SubFamily: Step-Down Regulator; Switch Current Limit(Typ)(A): 1; Vin(Max)(V): 6; Vin(Min)(V): 2.5; Vout(Max)(V): 1.575; Vout(Min)(V): 1.1; Vout2(Max)(V): 2.8; DatasheetVersion: SLVS681E; PackageVersion: revL, Sep-2011; PackageReference: DRC10-2400X1650TP; PackageDescription: 10-Pin Plastic Small Outline No-Lead, 3 x 3 x 1 mm Body, 0.5 mm Pitch, Exposed Pad; Supplier 1: Digi-Key; Supplier Part Number 1: TPS62403DRCTG4-ND; Eco-Plan: Green (RoHS & no Sb/Br); Topology: Buck; Vout2(Min)(V): 2.8; Mounting Technology: Surface Mount; ComponentLink1Description: Datasheet; ComponentLink1URL: http://www.ti.com/general/docs/lit/getliterature.tsp?genericPartNumber=TPS62403&fileType=pdf; ComponentLink2Description: Package Specification; ComponentLink2URL: http://www.ti.com/litv/pdf/mpds117k; ComponentLink3Description: URL Link1; ComponentLink3URL: Samples URL:http://www.ti.com/product/tps54611#samples
footprint DRC10-2400X1650TP (SON, 10-Leads, Body 3x3mm, Pitch 0.5mm, Thermal Pad 2.4x1.65mm, TI Recommended)
pins: 1 ADJ2 "Input to adjust output voltage of converter 2. In adjustable version (TPS62400) connect a external resistor divider between VOUT2, this pin and GND to set output voltage between 0.6V and VIN. At fixed output voltage version (See Datasheet)", 2 MODE/DATA (io) "This Pin has 2 functions: 1. Operation Mode selection: With low level, Power Save Mode is enabled where the device operates in PFM mode at light loads and enters automatically PWM mode at heavy loads. Pulling this PIN to (See Datasheet)", 3 VIN (power) "Supply voltage, connect to VBAT, 2.5V to 6V", 4 FB1 "Direct feedback voltage sense input of converter 1, connect directly to Vout 1. An internal feed forward capacitor is connected between this pin and the error amplifier. In case of fixed output voltage versions or when the (See Datasheet)", 5 DEF_1 (in) "This pin defines the output voltage of converter 1. The pin acts either as analog input for output voltage setting via external resistors (TPS62400), or digital input to select between two fixed default output voltages (See Datasheet)", 6 SW1 (power) "Switch Pin of Converter1. Connect to Inductor", 7 EN1 (in) "Enable Input for Converter1, active high", 8 GND (power) "GND for both converters; connect this pin to the PowerPAD", 9 EN2 (in) "Enable Input for Converter 2, active high", 10 SW2 (power) "Switch Pin of Converter 2. Connect to Inductor.", 11 PP (power) "Connect to GND"

## TPS62404DRCR
designator U?
Buck Step Down Regulator with 2.5 to 6 V Input and 1.2 to 1.9 V Output, -40 to 85 degC, 10-Pin SON (DRC), Green (RoHS & no Sb/Br); Manufacturer: Texas Instruments; PartNumber: TPS62404DRCR; Duty Cycle(Max)(%): 100; Dynamic Voltage Scaling: TRUE; Iout(Max)(A): 0.4; Iout2(Max)(A): 0.6; Iq(Typ)(mA): 0.032; Rating: Catalog; Regulated Outputs(#): 2; SubFamily: Step-Down Regulator; Switch Current Limit(Typ)(A): 1; Vin(Max)(V): 6; Vin(Min)(V): 2.5; Vout(Max)(V): 1.9; Vout(Min)(V): 1.2; Vout2(Max)(V): 3.3; DatasheetVersion: SLVS681E; PackageVersion: revL, Sep-2011; PackageReference: DRC10-2400X1650TP; PackageDescription: 10-Pin Plastic Small Outline No-Lead, 3 x 3 x 1 mm Body, 0.5 mm Pitch, Exposed Pad; Supplier 1: Digi-Key; Supplier Part Number 1: 296-27461-2-ND; Eco-Plan: Green (RoHS & no Sb/Br); Synchronous Rectification: TRUE; Topology: Buck; Vout2(Min)(V): 3.3; Mounting Technology: Surface Mount; ComponentLink1Description: Datasheet; ComponentLink1URL: http://www.ti.com/general/docs/lit/getliterature.tsp?genericPartNumber=TPS62404&fileType=pdf; ComponentLink2Description: Package Specification; ComponentLink2URL: http://www.ti.com/litv/pdf/mpds117k; ComponentLink3Description: URL Link1; ComponentLink3URL: Samples URL:http://www.ti.com/product/tps62404#samples
footprint DRC10-2400X1650TP (SON, 10-Leads, Body 3x3mm, Pitch 0.5mm, Thermal Pad 2.4x1.65mm, TI Recommended)
pins: 1 ADJ2 "Input to adjust output voltage of converter 2. In adjustable version (TPS62400) connect a external resistor divider between VOUT2, this pin and GND to set output voltage between 0.6V and VIN. At fixed output voltage version (See Datasheet)", 2 MODE/DATA (io) "This Pin has 2 functions: 1. Operation Mode selection: With low level, Power Save Mode is enabled where the device operates in PFM mode at light loads and enters automatically PWM mode at heavy loads. Pulling this PIN to (See Datasheet)", 3 VIN (power) "Supply voltage, connect to VBAT, 2.5V to 6V", 4 FB1 "Direct feedback voltage sense input of converter 1, connect directly to Vout 1. An internal feed forward capacitor is connected between this pin and the error amplifier. In case of fixed output voltage versions or when the (See Datasheet)", 5 DEF_1 (in) "This pin defines the output voltage of converter 1. The pin acts either as analog input for output voltage setting via external resistors (TPS62400), or digital input to select between two fixed default output voltages (See Datasheet)", 6 SW1 (power) "Switch Pin of Converter1. Connect to Inductor", 7 EN1 (in) "Enable Input for Converter1, active high", 8 GND (power) "GND for both converters; connect this pin to the PowerPAD", 9 EN2 (in) "Enable Input for Converter 2, active high", 10 SW2 (power) "Switch Pin of Converter 2. Connect to Inductor.", 11 PP (power) "Connect to GND"

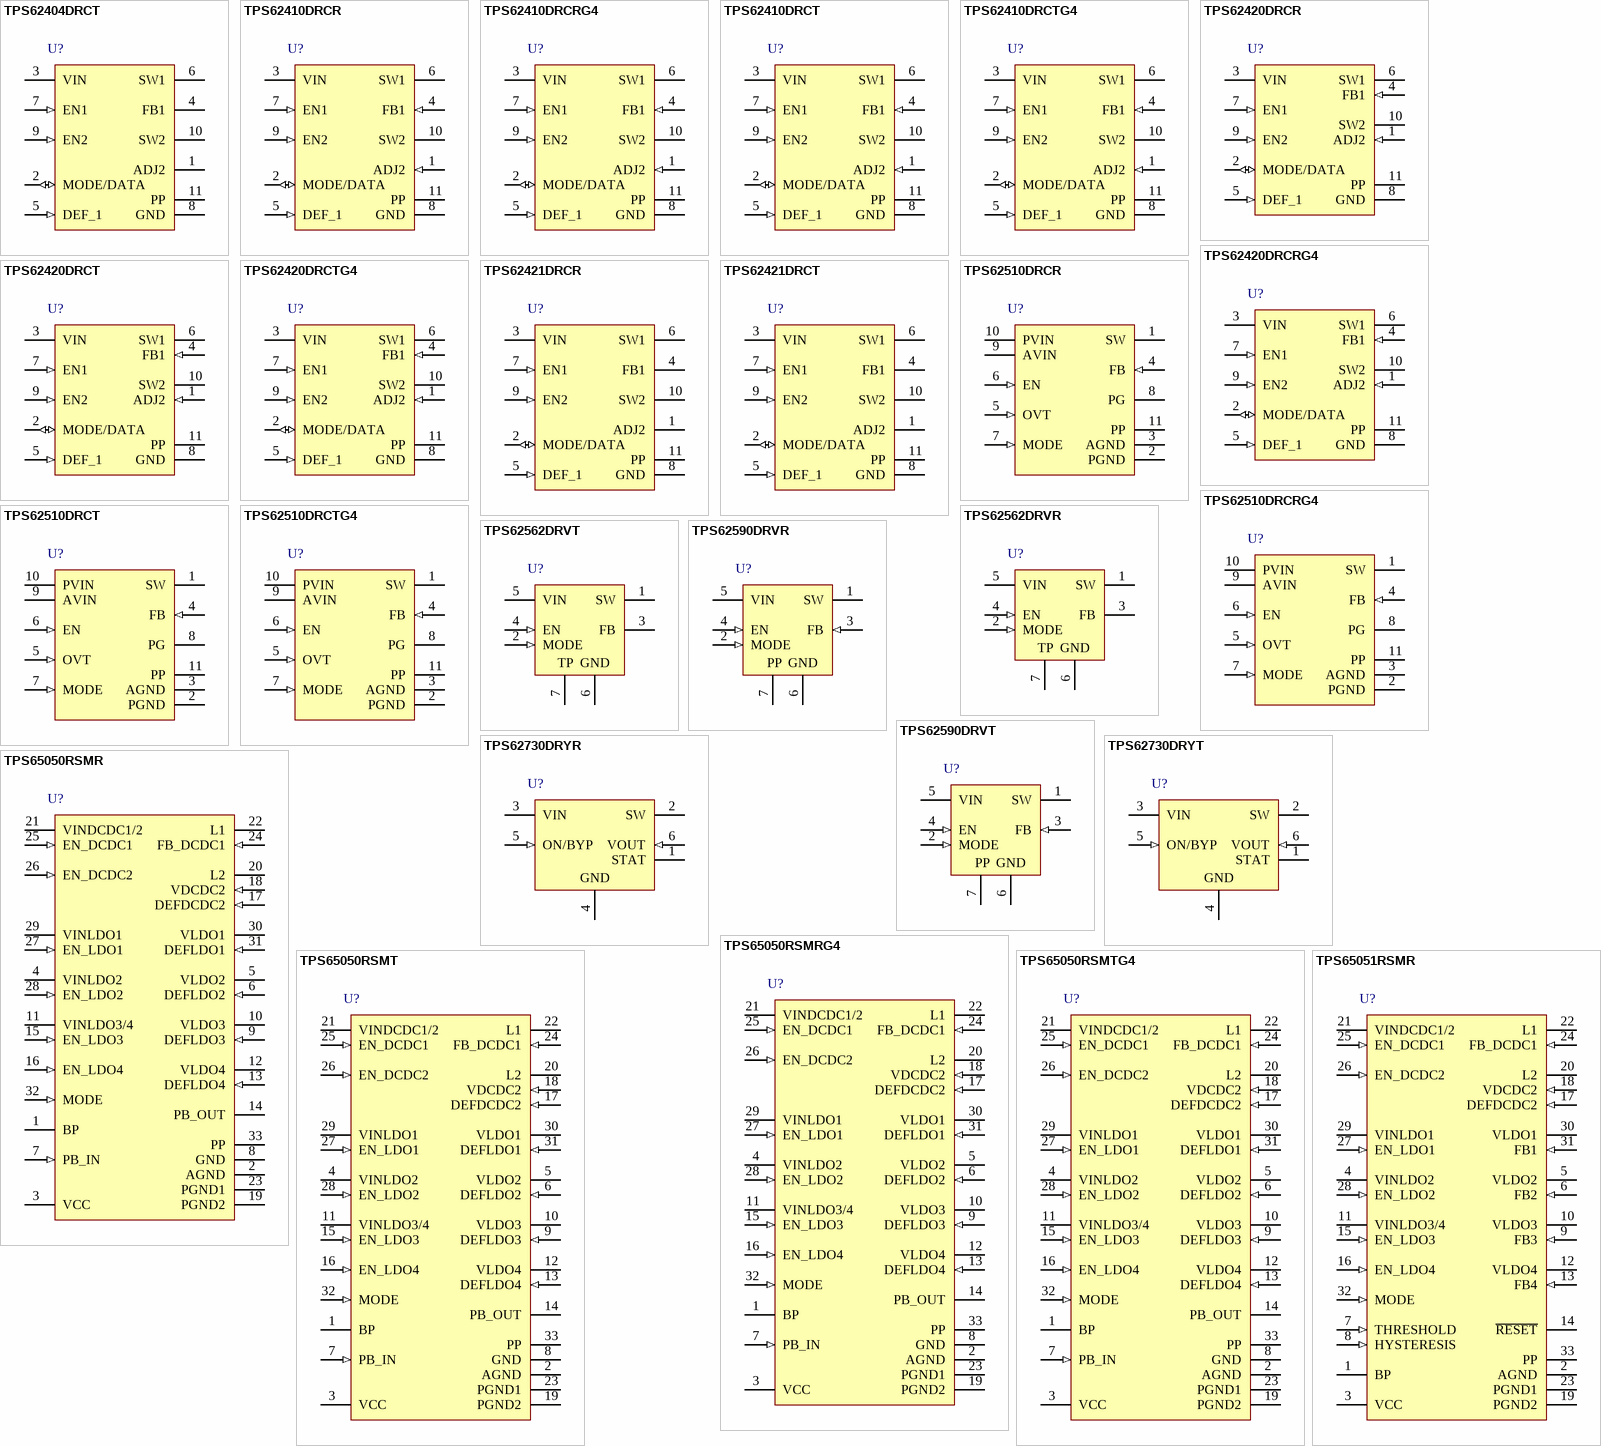
[diagram p14: symbols TPS62404DRCT to TPS65051RSMR]

## TPS62404DRCT
designator U?
Buck Step Down Regulator with 2.5 to 6 V Input and 1.2 to 1.9 V Output, -40 to 85 degC, 10-Pin SON (DRC), Green (RoHS & no Sb/Br); Manufacturer: Texas Instruments; PartNumber: TPS62404DRCT; Duty Cycle(Max)(%): 100; Dynamic Voltage Scaling: TRUE; Iout(Max)(A): 0.4; Iout2(Max)(A): 0.6; Iq(Typ)(mA): 0.032; Rating: Catalog; Regulated Outputs(#): 2; SubFamily: Step-Down Regulator; Switch Current Limit(Typ)(A): 1; Vin(Max)(V): 6; Vin(Min)(V): 2.5; Vout(Max)(V): 1.9; Vout(Min)(V): 1.2; Vout2(Max)(V): 3.3; DatasheetVersion: SLVS681E; PackageVersion: revL, Sep-2011; PackageReference: DRC10-2400X1650TP; PackageDescription: 10-Pin Plastic Small Outline No-Lead, 3 x 3 x 1 mm Body, 0.5 mm Pitch, Exposed Pad; Supplier 1: Digi-Key; Supplier Part Number 1: TPS62404DRCT-ND; Eco-Plan: Green (RoHS & no Sb/Br); Synchronous Rectification: TRUE; Topology: Buck; Vout2(Min)(V): 3.3; Mounting Technology: Surface Mount; ComponentLink1Description: Datasheet; ComponentLink1URL: http://www.ti.com/general/docs/lit/getliterature.tsp?genericPartNumber=TPS62404&fileType=pdf; ComponentLink2Description: Package Specification; ComponentLink2URL: http://www.ti.com/litv/pdf/mpds117k; ComponentLink3Description: URL Link1; ComponentLink3URL: Samples URL:http://www.ti.com/product/tps54611#samples
footprint DRC10-2400X1650TP (SON, 10-Leads, Body 3x3mm, Pitch 0.5mm, Thermal Pad 2.4x1.65mm, TI Recommended)
pins: 1 ADJ2 "Input to adjust output voltage of converter 2. In adjustable version (TPS62400) connect a external resistor divider between VOUT2, this pin and GND to set output voltage between 0.6V and VIN. At fixed output voltage version (See Datasheet)", 2 MODE/DATA (io) "This Pin has 2 functions: 1. Operation Mode selection: With low level, Power Save Mode is enabled where the device operates in PFM mode at light loads and enters automatically PWM mode at heavy loads. Pulling this PIN to (See Datasheet)", 3 VIN (power) "Supply voltage, connect to VBAT, 2.5V to 6V", 4 FB1 "Direct feedback voltage sense input of converter 1, connect directly to Vout 1. An internal feed forward capacitor is connected between this pin and the error amplifier. In case of fixed output voltage versions or when the (See Datasheet)", 5 DEF_1 (in) "This pin defines the output voltage of converter 1. The pin acts either as analog input for output voltage setting via external resistors (TPS62400), or digital input to select between two fixed default output voltages (See Datasheet)", 6 SW1 (power) "Switch Pin of Converter1. Connect to Inductor", 7 EN1 (in) "Enable Input for Converter1, active high", 8 GND (power) "GND for both converters; connect this pin to the PowerPAD", 9 EN2 (in) "Enable Input for Converter 2, active high", 10 SW2 (power) "Switch Pin of Converter 2. Connect to Inductor.", 11 PP (power) "Connect to GND"